# Altium schematic symbol library Headers.SchLib: 1 symbol
Pins are listed as number, name and electrical type; pins without a type are passive.

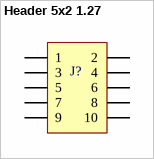
[diagram p0: symbol Header 5x2 1.27]

## Header 5x2 1.27
designator J?  (value not drawn)
footprint 2x5 Header 1.27mm
pins: 1, 2, 3, 4, 5, 6, 7, 8, 9, 10